# EAGLE library part COS8092SR (library ICs)
350MHz, Rail-to-Rail Input/Output High Speed Operational Amplifiers
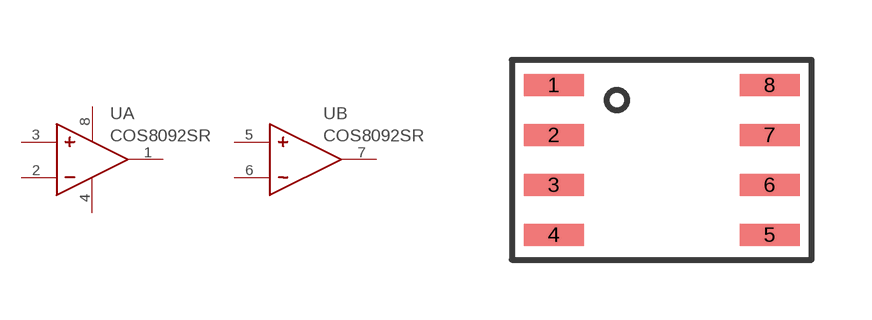
[diagram p338: symbol with the pads of SO8; footprint SO8]

Designator prefix U; gates A=OPAMP_SUPPLIES B=OPAMP_NOSUPPLIES

## COS8092SRD (HEIGHT: 1.5; LCSC: C726663; PRICE_PER: 0.29; VALUE: COS8092SR)  [SO8]
1  A:OUT
2  A:-
3  A:+
4  A:V-
5  B:+
6  B:-
7  B:OUT
8  A:V+

## Footprint SO8 (pad centres in mm)
smd 1.5 x 0.55: 1 -2.7,1.875; 2 -2.7,0.625; 3 -2.7,-0.625; 4 -2.7,-1.875; 5 2.7,-1.875; 6 2.7,-0.625; 7 2.7,0.625; 8 2.7,1.875